# Altium footprint library YX7525P.PcbLib: 1 footprints
Each footprint in its own frame and in the unit in brackets; x right, y up, seen from the top. Pads: shape width x height; smd on the part's side, far side on the other; paste and mask are expansions set on the pad; w line width, h text height; cw(c..) or ccw(c..) is an arc to the next point about the centre after c.
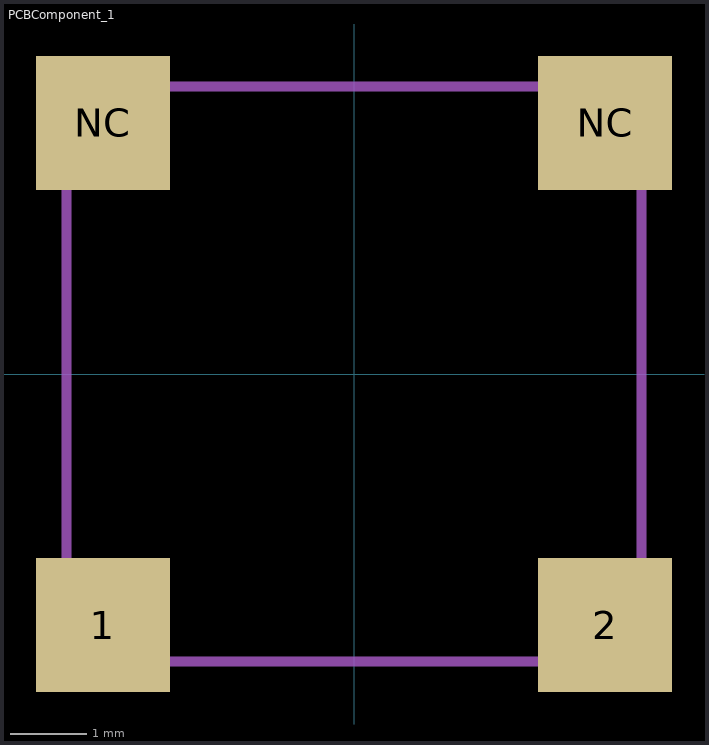
[diagram p0: the footprint, top view; thin cyan lines are the x and y axes]

## PCBComponent_1 [mm]
pads (4):
  rect 1.75x1.75 smd: 1(-3.275,-3.275) 2(3.275,-3.275) NC(-3.275,3.275) NC(3.275,3.275)
Mechanical 1:
  lines w0.127: -3.75,-3.75 3.75,-3.75 3.75,3.75 -3.75,3.75 -3.75,-3.75
3D body "User Library-YX7525P v1.step": height 2.52, standoff 0, extent -3.75,-3.75 3.75,3.75